# Altium footprint library PASSIVE_THD.PCBLIB: 248 footprints (part 12 of 16)
Each footprint in its own frame and in the unit in brackets; x right, y up, seen from the top. Pads: shape width x height; smd on the part's side, far side on the other; paste and mask are expansions set on the pad; w line width, h text height; cw(c..) or ccw(c..) is an arc to the next point about the centre after c.
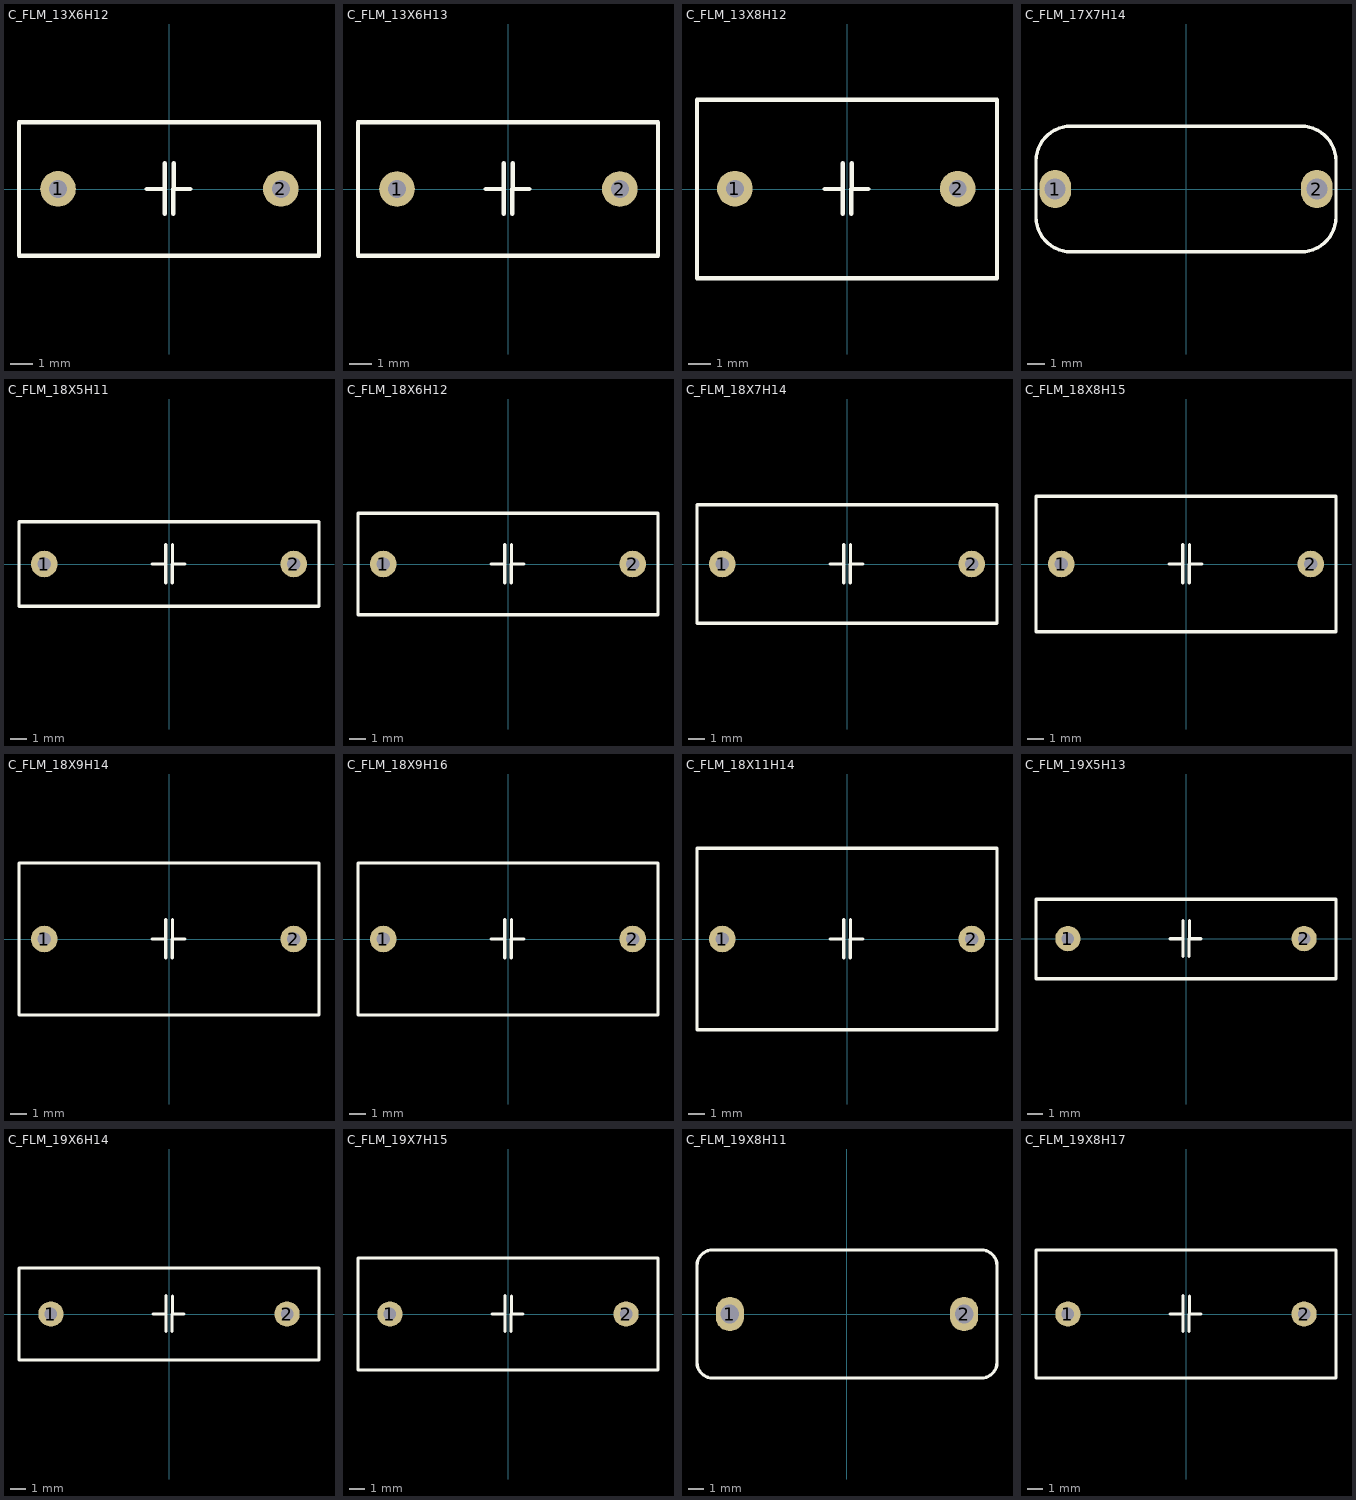
[diagram p11: the footprints below, top view; thin cyan lines are the x and y axes]

## C_FLM_13X6H12 [mm] "Capacitor, THT, Metallized Polyester Film with 13x6x12.5mm LxTxH"
height 7
pads (2):
  round 1.6 hole 0.8: 1(-4.979,0.004) 2(5.021,0.004)
TopOverlay:
  lines w0.2: -1,0 -0.2,0 ; -0.2,-1.119 -0.2,1.164 ; 0.2,-1.119 0.212,1.151 ; 0.2,0 0.95,0 ; -6.731,-3 6.731,-3 6.731,3 -6.731,3 -6.731,-3
3D body "FILM_RED_P1000L600W1250H1300PD60.step": height 12.5, standoff -6.2, extent -6.5,-3 6.5,3

## C_FLM_13X6H13 [mm] "Capacitor, THT, Metallized Polyester Film 13x6x13mm LxTxH"
height 7
pads (2):
  round 1.6 hole 0.8: 1(-4.98,-0.001) 2(5.02,-0.001)
TopOverlay:
  lines w0.2: -1,0 -0.2,0 ; -0.2,-1.119 -0.2,1.164 ; 0.2,-1.119 0.212,1.151 ; 0.2,0 0.95,0 ; -6.731,-3 -6.731,3 6.731,3 6.731,-3 -6.731,-3
3D body "FILM_RED_P1000L600W1250H1300PD60.step": height 12.5, standoff -6.2, extent -6.5,-3 6.5,3

## C_FLM_13X8H12 [mm] "Capacitor, THT, Metallized Polyester Film 13x8x12mm LxTxH"
height 7
pads (2):
  round 1.6 hole 0.8: 1(-5.031,0.014) 2(4.969,0.014)
TopOverlay:
  lines w0.2: -1,0 -0.2,0 ; -0.2,-1.119 -0.2,1.164 ; 0.2,-1.119 0.212,1.151 ; 0.2,0 0.95,0 ; -6.731,-4 -6.731,4 6.731,4 6.731,-4 -6.731,-4
3D body "FILM_RED_P1000L800W1200H1300PD60.step": height 12, standoff -6.2, extent -6.5,-4 6.5,4

## C_FLM_17X7H14 [mm] "CAP, POLYESTER, 17X7mm pitch: 15.0mm, 0.33uF 400V"
height 13.5
pads (2):
  oval 1.8x2.2 hole 1.2: 1(-7.5,0) 2(7.5,0)
TopOverlay:
  lines w0.2: -8.6,-1.6 ccw(c-6.6,-1.6) -6.6,-3.6 6.6,-3.6 ccw(c6.6,-1.6) 8.6,-1.6 8.6,1.6 ccw(c6.6,1.6) 6.6,3.6 -6.6,3.6 ccw(c-6.6,1.6) -8.6,1.6 -8.6,-1.6
3D body: height 14, standoff 0.5, extent -8.5,-3.5 8.5,3.5

## C_FLM_18X5H11 [mm] "Capacitor, THT, Metallized Polyester Film 18x5x11mm LxTxH"
height 7
pads (2):
  round 1.6 hole 0.8: 1(-7.5,0) 2(7.5,0)
TopOverlay:
  lines w0.2: -1,0 -0.2,0 ; -0.2,-1.119 -0.2,1.164 ; 0.2,-1.119 0.212,1.151 ; 0.2,0 0.95,0 ; -9.017,-2.54 -9.017,2.54 9.017,2.54 9.017,-2.54 -9.017,-2.54
3D body "FILM_RED_P1500L1800W500H1100PD80.step": height 11, standoff -6.2, extent -9,-2.5 9,2.5

## C_FLM_18X6H12 [mm] "Capacitor, THT, Metallized Polyester Film 18x6x12.5mm LxTxH"
height 7
pads (2):
  round 1.6 hole 0.8: 1(-7.5,0) 2(7.5,0)
TopOverlay:
  lines w0.2: -1,0 -0.2,0 ; -0.2,-1.119 -0.2,1.164 ; 0.2,-1.119 0.212,1.151 ; 0.2,0 0.95,0 ; -9.017,-3.048 -9.017,3.048 9.017,3.048 9.017,-3.048 -9.017,-3.048
3D body "FILM_RED_P1500L1800W600H1250PD80.step": height 12.5, standoff -6.2, extent -9,-3 9,3

## C_FLM_18X7H14 [mm] "Capacitor, THT, Metallized Polyester Film 18x7x14mm LxTxH"
height 7
pads (2):
  round 1.6 hole 0.8: 1(-7.5,0) 2(7.5,0)
TopOverlay:
  lines w0.2: -1,0 -0.2,0 ; -0.2,-1.119 -0.2,1.164 ; 0.2,-1.119 0.212,1.151 ; 0.2,0 0.95,0 ; -9.017,-3.556 9.017,-3.556 9.017,3.556 -9.017,3.556 -9.017,-3.556
3D body "FILM_RED_P1500L1800W700H1400PD80.step": height 14, standoff -6.2, extent -9,-3.5 9,3.5

## C_FLM_18X8H15 [mm] "Capacitor, THT, Metallized Polyester Film 18x8x15mm LxTxH"
height 7
pads (2):
  round 1.6 hole 0.8: 1(-7.5,0) 2(7.5,0)
TopOverlay:
  lines w0.2: -1,0 -0.2,0 ; -0.2,-1.119 -0.2,1.164 ; 0.2,-1.119 0.212,1.151 ; 0.2,0 0.95,0 ; -9.017,-4.064 9.017,-4.064 9.017,4.064 -9.017,4.064 -9.017,-4.064
3D body "FILM_RED_P1500L1800W800H1500PD80.step": height 15, standoff -6.2, extent -9,-4 9,4

## C_FLM_18X9H14 [mm] "Capacitor, THT, Metallized Polyester Film 18x9x14mm LxTxH"
height 7
pads (2):
  round 1.6 hole 0.8: 1(-7.5,0) 2(7.5,0)
TopOverlay:
  lines w0.2: -1,0 -0.2,0 ; -0.2,-1.119 -0.2,1.164 ; 0.2,-1.119 0.212,1.151 ; 0.2,0 0.95,0 ; -9.017,-4.572 -9.017,4.572 9.017,4.572 9.017,-4.572 -9.017,-4.572
3D body "FILM_RED_P1500L1800W900H1400PD80.step": height 14, standoff -6.2, extent -9,-4.5 9,4.5

## C_FLM_18X9H16 [mm] "Capacitor, THT, Metallized Polyester Film 18x9x16mm LxTxH"
height 7
pads (2):
  round 1.6 hole 0.8: 1(-7.5,0) 2(7.5,0)
TopOverlay:
  lines w0.2: -1,0 -0.2,0 ; -0.2,-1.119 -0.2,1.164 ; 0.2,-1.119 0.212,1.151 ; 0.2,0 0.95,0 ; -9.017,-4.572 9.017,-4.572 9.017,4.572 -9.017,4.572 -9.017,-4.572
3D body "FILM_RED_P1500L1800W900H1600PD80.step": height 16, standoff -6.2, extent -9,-4.5 9,4.5

## C_FLM_18X11H14 [mm] "Capacitor, THT, Metallized Polyester Film 18x11x14mm LxTxH"
height 7
pads (2):
  round 1.6 hole 0.8: 1(-7.5,0) 2(7.5,0)
TopOverlay:
  lines w0.2: -1,0 -0.2,0 ; -0.2,-1.119 -0.2,1.164 ; 0.2,-1.119 0.212,1.151 ; 0.2,0 0.95,0 ; -9.017,-5.461 9.017,-5.461 9.017,5.461 -9.017,5.461 -9.017,-5.461
3D body "FILM_RED_P1500L1800W1100H1400PD80.step": height 14, standoff -6.2, extent -9,-5.5 9,5.5

## C_FLM_19X5H13 [mm] "Capacitor, THT, Metallized Polyester Film 19x5x13mm LxTxH"
height 7
pads (2):
  round 1.6 hole 0.8: 1(-7.5,0) 2(7.5,0)
TopOverlay:
  lines w0.2: -1,0 -0.2,0 ; -0.2,-1.119 -0.2,1.164 ; 0.2,-1.119 0.212,1.151 ; 0.2,0 0.95,0 ; -9.525,-2.54 9.525,-2.54 9.525,2.5 -9.525,2.5 -9.525,-2.54
3D body "FILM_RED_P1500L1900W500H1300PD80.step": height 13, standoff -6.2, extent -9.5,-2.5 9.5,2.5

## C_FLM_19X6H14 [mm] "Capacitor, THT, Metallized Polyester Film 19x6x14mm LxTxH"
height 7
pads (2):
  round 1.6 hole 0.8: 1(-7.5,0) 2(7.5,0)
TopOverlay:
  lines w0.2: -1,0 -0.2,0 ; -0.2,-1.119 -0.2,1.164 ; 0.2,-1.119 0.212,1.151 ; 0.2,0 0.95,0 ; -9.525,-2.921 9.525,-2.921 9.525,2.921 -9.525,2.921 -9.525,-2.921
3D body "FILM_RED_P1500L1900W600H1400PD80.step": height 14, standoff -6.2, extent -9.5,-3 9.5,3

## C_FLM_19X7H15 [mm] "Capacitor, THT, Metallized Polyester Film 19x7x15mm LxTxH"
height 7
pads (2):
  round 1.6 hole 0.8: 1(-7.5,0) 2(7.5,0)
TopOverlay:
  lines w0.2: -1,0 -0.2,0 ; -0.2,-1.119 -0.2,1.164 ; 0.2,-1.119 0.212,1.151 ; 0.2,0 0.95,0 ; -9.525,-3.556 -9.525,3.556 9.525,3.556 9.525,-3.556 -9.525,-3.556
3D body "FILM_RED_P1500L1900W700H1500PD80.step": height 15, standoff -6.2, extent -9.5,-3.5 9.5,3.5

## C_FLM_19X8H11 [mm] "CAP, POLYESTER, MKT, 18X5, 19.0X8.0mm pitch: 15.0mm, 0.22uF 400V"
pads (2):
  oval 1.8x2.2 hole 1.2: 1(-7.5,0) 2(7.5,0)
TopOverlay:
  lines w0.2: -9.6,-3.1 ccw(c-8.6,-3.1) -8.6,-4.1 8.6,-4.1 ccw(c8.6,-3.1) 9.6,-3.1 9.6,3.1 ccw(c8.6,3.1) 8.6,4.1 -8.6,4.1 ccw(c-8.6,3.1) -9.6,3.1 -9.6,-3.1
3D body "User Library-CAP_POLY_15mm.step": height 16, standoff -4, extent -9.5,-4 9.5,4

## C_FLM_19X8H17 [mm] "Capacitor, THT, Metallized Polyester Film 19x8x17mm LxTxH"
height 7
pads (2):
  round 1.6 hole 0.8: 1(-7.5,0) 2(7.5,0)
TopOverlay:
  lines w0.2: -1,0 -0.2,0 ; -0.2,-1.119 -0.2,1.164 ; 0.2,-1.119 0.212,1.151 ; 0.2,0 0.95,0 ; -9.525,-4.064 9.525,-4.064 9.525,4.064 -9.525,4.064 -9.525,-4.064
3D body "FILM_RED_P1500L1900W800H1700PD80.step": height 17, standoff -6.2, extent -9.5,-4 9.5,4